# Altium footprint library DIP-OTHER 0607.pcblib: 24 footprints (part 1 of 2)
Each footprint in its own frame and in the unit in brackets; x right, y up, seen from the top. Pads: shape width x height; smd on the part's side, far side on the other; paste and mask are expansions set on the pad; w line width, h text height; cw(c..) or ccw(c..) is an arc to the next point about the centre after c.
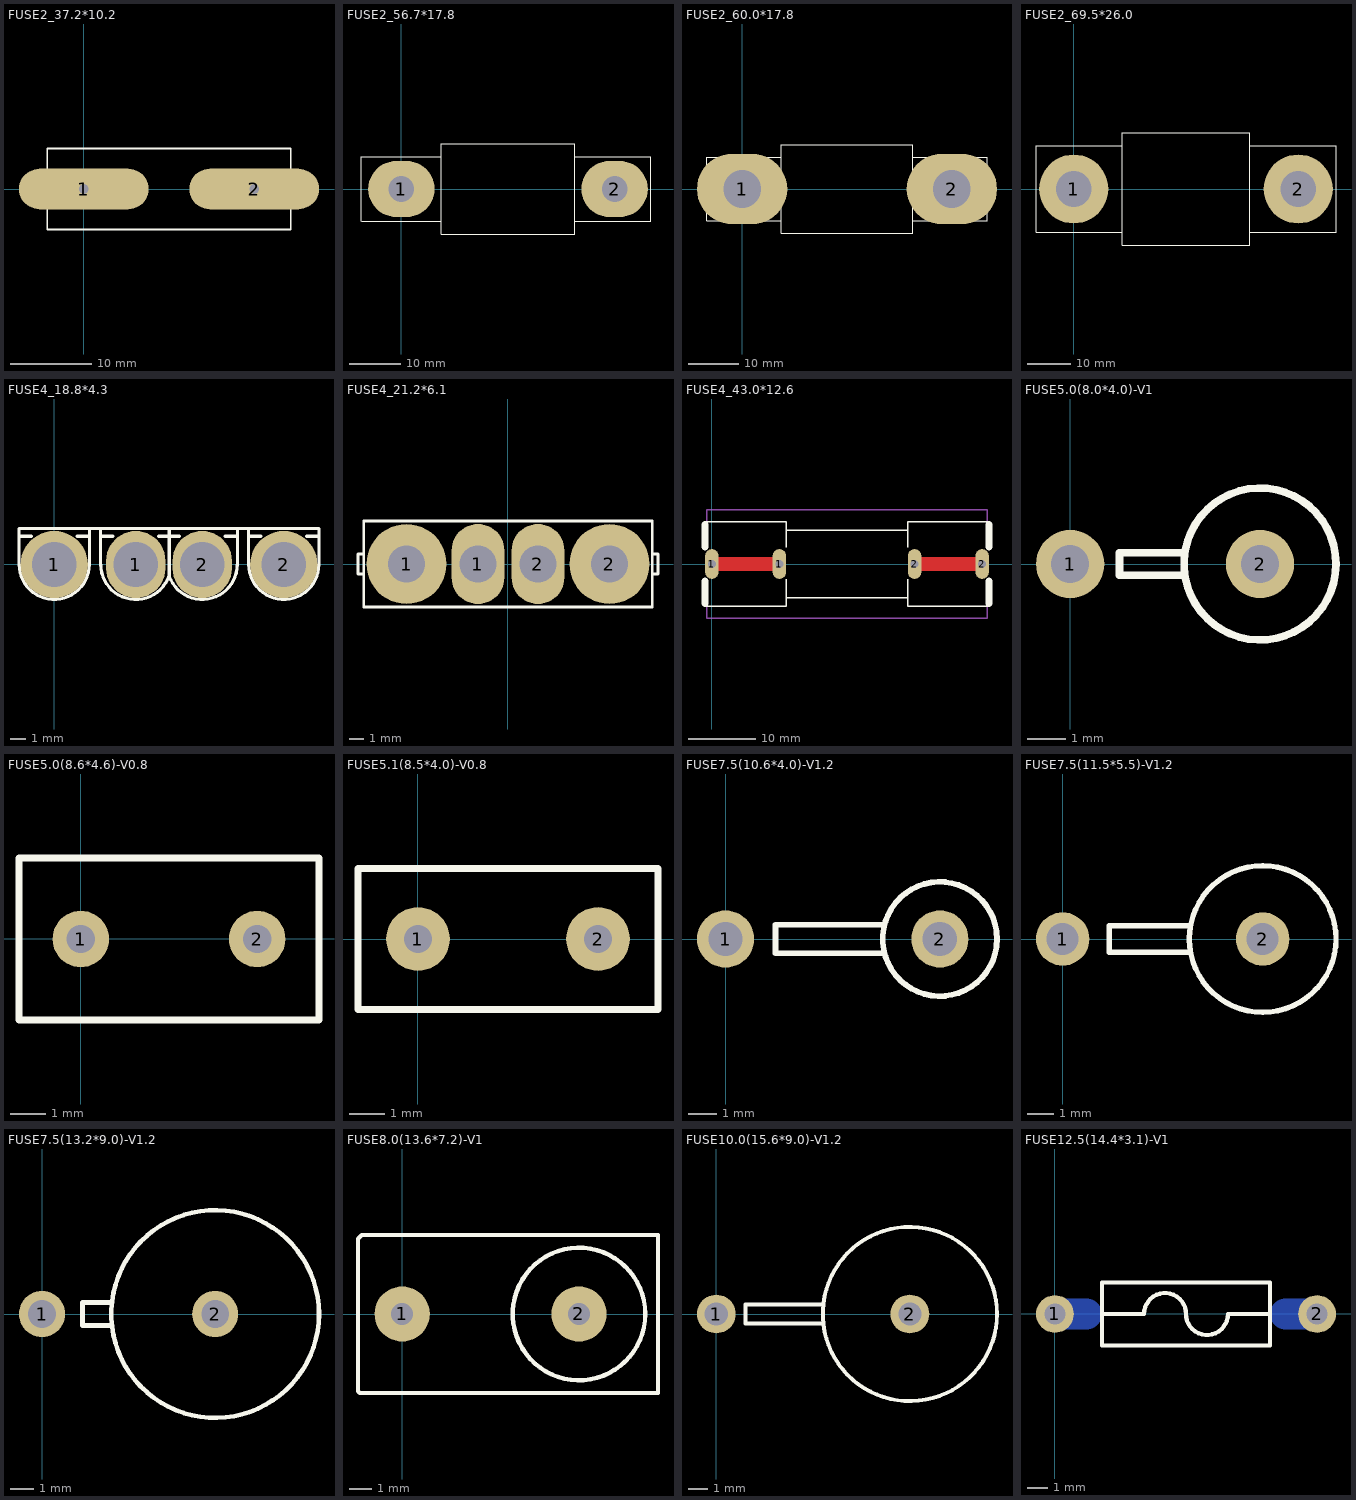
[diagram p0: the footprints below, top view; thin cyan lines are the x and y axes]

## FUSE2_37.2*10.2 [mm]
pads (2):
  oval 16x5 hole 1.2: 1(0,0) 2(21,0)
Top Overlay:
  lines w0.2: -4.5,-5 -4.5,5 25.5,5 25.5,-5 -4.5,-5
Top Solder:
  lines w1.5: -5.4,0 0,0 5.4,0 ; 15.6,0 21,0 26.4,0
Drill Drawing:
  lines w0.2: -5.4,-0.6 cw(c-5.4,0) -5.4,0.6 5.4,0.6 cw(c5.4,0) 5.4,-0.6 -5.4,-0.6 ; 15.6,-0.6 cw(c15.6,0) 15.6,0.6 26.4,0.6 cw(c26.4,0) 26.4,-0.6 15.6,-0.6
  text "(1.2*12)X2" at 3,3.1 h1.2

## FUSE2_56.7*17.8 [mm] "H=19.1mm"
height 19.1
pads (2):
  oval 13x11 hole 5: 1(0,0) 2(41.8,0)
Top Overlay:
  lines w0.2: -7.85,-6.35 -7.85,6.35 ; -7.8,-6.35 7.1,-6.35 ; -7.8,6.35 7.1,6.35 ; -7.1,-6.35 7.8,-6.35 ; -7.1,6.35 7.8,6.35 ; 34,-6.35 48.9,-6.35 48.9,6.35 34,6.35 ; 7.8,-8.85 7.8,8.85 34,8.85 34,-8.85 7.8,-8.85
Top Solder:
  rectangle: 33.3,-7 50.3,7
  rectangle: -8.5,-7 8.5,7
Bottom Solder:
  lines w1: -8,-6.5 8,-6.5 ; -8,-5.5 -5.25,-5.5 ; -8,-4 -6,-4 ; -8,-2.5 -6.75,-2.5 ; -8,-1 -7,-1 ; -8,0.5 -7,0.5 ; -8,2 -7,2 ; -8,3.5 -6.5,3.5 ; -8,5 -5.5,5 ; -8,6.5 8,6.5 ; 5.25,5.5 8,5.5 ; 5.5,-5 8,-5 ; 6,4 8,4 ; 6.5,-3.5 8,-3.5 ; 6.75,2.5 8,2.5 ; 7,-2 8,-2 ; 7,-0.5 8,-0.5 ; 7,1 8,1 ; 33.8,-6.5 49.8,-6.5 ; 33.8,-5.5 36.55,-5.5 ; 33.8,-4 35.8,-4 ; 33.8,-2.5 35.05,-2.5 ; 33.8,-1 34.8,-1 ; 33.8,0.5 34.8,0.5 ; 33.8,2 34.8,2 ; 33.8,3.5 35.3,3.5 ; 33.8,5 36.3,5 ; 33.8,6.5 49.75,6.5 ; 47.05,5.5 49.8,5.5 ; 47.3,-5 49.8,-5 ; 47.8,4 49.8,4 ; 48.3,-3.5 49.8,-3.5 ; 48.55,2.5 49.8,2.5 ; 48.8,-2 49.8,-2 ; 48.8,-0.5 49.8,-0.5 ; 48.8,1 49.8,1
Drill Drawing:
  lines w0.2: -3,-1.9 ccw(c-2.4,-1.9) -2.4,-2.5 2.4,-2.5 ccw(c2.4,-1.9) 3,-1.9 3,1.9 ccw(c2.4,1.9) 2.4,2.5 -2.4,2.5 ccw(c-2.4,1.9) -3,1.9 -3,-1.9 ; 38.8,-1.9 ccw(c39.4,-1.9) 39.4,-2.5 44.2,-2.5 ccw(c44.2,-1.9) 44.8,-1.9 44.8,1.9 ccw(c44.2,1.9) 44.2,2.5 39.4,2.5 ccw(c39.4,1.9) 38.8,1.9 38.8,-1.9
  text "(5.0*6.0)" at 38.05,-4.75 h1.2
  text "R=0.6*4" at 38.05,3 h1.2
  text "R=0.6*4" at -3.75,3 h1.2
  text "(5.0*6.0)" at -3.75,-4.75 h1.2

## FUSE2_60.0*17.8 [mm]
pads (2):
  oval 18x14 hole 7.5: 1(0,0) 2(41.8,0)
Top Overlay:
  lines w0.2: 7.8,-6.35 -7.1,-6.35 -7.1,6.35 7.8,6.35 ; 34,-6.35 48.9,-6.35 48.9,6.35 34,6.35 ; 7.8,-8.85 34,-8.85 34,8.85 7.8,8.85 7.8,-8.85
Top Solder:
  lines w2: -7.5,-6.25 8.5,-6.25 ; -7.5,-4.75 8.5,-4.75 ; -7.5,-3.25 8.5,-3.25 ; -7.5,-1.75 8.5,-1.75 ; -7.5,-0.25 8.5,-0.25 ; -7.5,1.25 8.5,1.25 ; -7.5,2.75 8.5,2.75 ; -7.5,4.25 8.5,4.25 ; -7.5,6 8.5,6 ; 34.3,-6.25 50.3,-6.25 ; 34.3,-4.75 50.3,-4.75 ; 34.3,-3.25 50.3,-3.25 ; 34.3,-1.75 50.3,-1.75 ; 34.3,-0.25 50.3,-0.25 ; 34.3,1.25 50.3,1.25 ; 34.3,2.75 50.3,2.75 ; 34.3,4.25 50.3,4.25 ; 34.3,6 50.3,6 ; -8,-7.5 9,-7.5 9,7.25 -8,7.25 -8,-7.5 ; 33.8,-7.5 50.8,-7.5 50.8,7.25 33.8,7.25 33.8,-7.5
Bottom Solder:
  lines w1: -8,-8 9,-8 ; -8,-6.25 -3,-6.25 ; -8,-4.5 -5.25,-4.5 ; -8,-2.75 -6.5,-2.75 ; -8,-1 -7,-1 ; -8,0.75 -7,0.75 ; -8,2.5 -6.5,2.5 ; -8,4.25 -5.5,4.25 ; -8,6 -3.5,6 ; -8,7.75 9,7.75 ; 3,-6.25 9,-6.25 ; 3.5,6 9,6 ; 5.25,-4.5 9,-4.5 ; 5.5,4.25 9,4.25 ; 6.5,-2.75 9,-2.75 ; 6.5,2.5 9,2.5 ; 7,-1 9,-1 ; 7,0.75 9,0.75 ; 33.8,-8 50.8,-8 ; 33.8,-6.25 38.8,-6.25 ; 33.8,-4.5 36.55,-4.5 ; 33.8,-2.75 35.3,-2.75 ; 33.8,-1 34.8,-1 ; 33.8,0.75 34.8,0.75 ; 33.8,2.5 35.3,2.5 ; 33.8,4.25 36.3,4.25 ; 33.8,6 38.3,6 ; 33.8,7.75 50.8,7.75 ; 44.8,-6.25 50.8,-6.25 ; 45.3,6 50.8,6 ; 47.05,-4.5 50.8,-4.5 ; 47.3,4.25 50.8,4.25 ; 48.3,-2.75 50.8,-2.75 ; 48.3,2.5 50.8,2.5 ; 48.8,-1 50.8,-1 ; 48.8,0.75 50.8,0.75
Drill Drawing:
  lines w0.2: -5,-3.15 ccw(c-4.4,-3.15) -4.4,-3.75 4.4,-3.75 ccw(c4.4,-3.15) 5,-3.15 5,3.15 ccw(c4.4,3.15) 4.4,3.75 -4.4,3.75 ccw(c-4.4,3.15) -5,3.15 -5,-3.15 ; 36.8,-3.15 ccw(c37.4,-3.15) 37.4,-3.75 46.2,-3.75 ccw(c46.2,-3.15) 46.8,-3.15 46.8,3.15 ccw(c46.2,3.15) 46.2,3.75 37.4,3.75 ccw(c37.4,3.15) 36.8,3.15 36.8,-3.15
  text "R=0.6*4" at 37.55,4.25 h1.2
  text "R=0.6*4" at -4.25,4.25 h1.2
  text "(7.5*10.0)*2" at 11.75,-1.25 h2

## FUSE2_69.5*26.0 [mm]
pads (2):
  round 16 hole 8.3: 1(0,0) 2(52,0)
Top Overlay:
  lines w0.2: 11.25,-10 -8.75,-10 -8.75,10 11.25,10 ; 40.75,-10 60.75,-10 60.75,10 40.75,10 ; 11.25,-13 40.75,-13 40.75,13 11.25,13 11.25,-13

## FUSE4_18.8*4.3 [mm]
pads (4):
  round 4.2 hole 2.8: 1(0.005,-0.011) 2(14.355,-0.011)
  oval 3.7x4.2 hole 2.8: 1(5.105,-0.011) 2(9.255,-0.011)
Top Overlay:
  lines w0.2: -2.195,-0.011 -2.195,2.239 2.555,2.239 7.305,2.239 ; -2.195,1.75 -1.425,1.75 ; -2.182,-0.011 ccw(c0.005,-0.011) 2.192,-0.011 ; 1.436,1.75 2.205,1.75 ; 2.205,-0.011 2.205,2.239 ; 2.905,-0.011 2.905,2.239 ; 2.905,1.75 3.675,1.75 ; 2.918,-0.011 ccw(c5.105,-0.011) 7.176,-0.717 ; 6.536,1.75 7.305,1.75 ; 7.055,1.75 7.825,1.75 ; 7.055,2.239 11.805,2.239 16.555,2.239 ; 7.189,-0.729 ccw(c9.255,-0.011) 11.442,-0.011 ; 7.2,-0.725 7.2,2.239 ; 10.686,1.75 11.455,1.75 ; 11.455,-0.011 11.455,2.239 ; 12.155,-0.011 12.155,2.239 ; 12.155,1.75 12.925,1.75 ; 12.168,-0.011 ccw(c14.355,-0.011) 16.542,-0.011 ; 15.786,1.75 16.555,1.75 ; 16.555,2.239 16.555,-0.011 16.555,2.239

## FUSE4_21.2*6.1 [mm]
pads (4):
  round 5.6 hole 2.6 unplated: 1(-7.1,0) 2(7.1,0)
  oval 3.7x5.6 hole 2.6 unplated: 1(-2.1,0) 2(2.1,0)
Top Overlay:
  lines w0.2: -10.2,-0.7 -10.5,-0.7 -10.5,0.7 -10.2,0.7 ; 10.1,-0.7 10.5,-0.7 10.5,0.7 10.1,0.7 ; -10.1,-3 -10.1,3 10.1,3 10.1,-3 -10.1,-3

## FUSE4_43.0*12.6 [mm]
pads (4):
  oval 2x4.4 hole 1.2: 1(0,0) 1(10,0) 2(30,0) 2(40,0)
Top Layer:
  lines w2: 0,0 10,0 ; 30,0 40,0
Top Overlay:
  lines w0.2: -1,-6.25 11,-6.25 11,-2.25 ; -1,6.25 11,6.25 11,2.5 ; 11,-5 29,-5 ; 11,5 29,5 ; 29,-2.25 29,-6.25 41,-6.25 ; 29,2.5 29,6.25 41,6.25
  lines w1: -1,-5.85 -1,-2.5 ; -1,2.5 -1,5.85 ; 41,-5.85 41,-2.5 ; 41,2.5 41,5.85
Top Solder:
  lines w1.5: 0,-0.8 0,0 0,0.8 ; 10,-0.8 10,0 10,0.8 ; 30,-0.8 30,0 30,0.8 ; 40,-0.8 40,0 40,0.8
Mechanical 7:
  lines w0.2: -0.75,-5.75 -0.75,-8 40.75,-8 40.75,-5.75 ; -0.75,5.75 -0.75,8 40.75,8 40.75,5.75
Drill Drawing:
  lines w0.2: 40.6,-0.8 40.6,0.8 ; 40.6,-0.8 cw(c40,-0.8) 39.4,-0.8 39.4,0.8 cw(c40,0.8) 40.6,0.8 ; -0.6,-0.8 ccw(c0,-0.8) 0.6,-0.8 0.6,0.8 ccw(c0,0.8) -0.6,0.8 -0.6,-0.8 ; 9.4,-0.8 ccw(c10,-0.8) 10.6,-0.8 10.6,0.8 ccw(c10,0.8) 9.4,0.8 9.4,-0.8 ; 29.4,-0.8 ccw(c30,-0.8) 30.6,-0.8 30.6,0.8 ccw(c30,0.8) 29.4,0.8 29.4,-0.8
  text "(1.2*2.8)*4" at 8,4 h1.2

## FUSE5.0(8.0*4.0)-V1 [mm]
pads (2):
  round 1.8 hole 1: 1(0,0) 2(5,0)
Top Overlay:
  circle w0.2: c5,0 r2
  lines w0.2: 3,-0.3 1.3,-0.3 1.3,0.3 3,0.3

## FUSE5.0(8.6*4.6)-V0.8 [mm]
pads (2):
  round 1.6 hole 0.8: 1(0.001,-0.012) 2(5.001,-0.012)
Top Overlay:
  lines w0.2: -1.749,-2.312 -1.749,2.288 6.751,2.288 6.751,-2.312 -1.749,-2.312

## FUSE5.1(8.5*4.0)-V0.8 [mm]
pads (2):
  round 1.8 hole 0.8: 1(0.004,0.01) 2(5.104,0.01)
Top Overlay:
  lines w0.2: -1.696,-1.99 -1.696,2.01 6.804,2.01 6.804,-1.99 -1.696,-1.99

## FUSE7.5(10.6*4.0)-V1.2 [mm]
height 11
pads (2):
  round 2 hole 1.2: 1(0,0) 2(7.5,0)
Top Overlay:
  circle w0.2: c7.5,0 r2
  lines w0.2: 5.5,-0.5 1.75,-0.5 1.75,0.5 5.5,0.5

## FUSE7.5(11.5*5.5)-V1.2 [mm]
height 21
pads (2):
  round 2 hole 1.2: 1(0,0) 2(7.5,0)
Top Overlay:
  circle w0.2: c7.5,0 r2.75
  lines w0.2: 4.75,-0.5 1.75,-0.5 1.75,0.5 4.75,0.5

## FUSE7.5(13.2*9.0)-V1.2 [mm]
height 11
pads (2):
  round 2 hole 1.2: 1(0,0) 2(7.5,0)
Top Overlay:
  circle w0.2: c7.5,0 r4.5
  lines w0.2: 3,-0.5 1.75,-0.5 1.75,0.5 3,0.5

## FUSE8.0(13.6*7.2)-V1 [mm]
pads (2):
  round 2.5 hole 1: 1(0.004,0.009) 2(8.004,0.009)
Top Overlay:
  circle w0.2: c8.004,0.009 r3
  lines w0.2: -1.996,-3.491 -1.996,3.409 -1.821,3.584 11.579,3.584 11.579,-3.566 -1.421,-3.566 -1.571,-3.566 -1.921,-3.566 -1.996,-3.491

## FUSE10.0(15.6*9.0)-V1.2  [mm]
height 11
pads (2):
  round 2 hole 1.2: 1(0,0) 2(10,0)
Top Overlay:
  circle w0.2: c10,0 r4.5
  lines w0.2: 5.5,-0.5 1.5,-0.5 1.5,0.5 5.5,0.5

## FUSE12.5(14.4*3.1)-V1 [mm]
height 3
pads (2):
  round 1.8 hole 1: 1(0,0) 2(12.5,0)
Bottom Layer:
  lines w1.5: 0,0 1.5,0 ; 11,0 12.5,0
Top Overlay:
  lines w0.2: 2.25,0 4.25,0 cw(c5.25,0) 6.25,0 ccw(c7.25,0) 8.25,0 10.25,0 ; 2.25,-1.5 2.25,1.5 10.25,1.5 10.25,-1.5 2.25,-1.5
Bottom Solder:
  lines w1: 0,0 1.5,0 ; 11,0 12.5,0